# Altium schematic symbol library Altium_LIB_2020.SchLib: 100 symbols
Pins are listed as number, name and electrical type; pins without a type are passive.

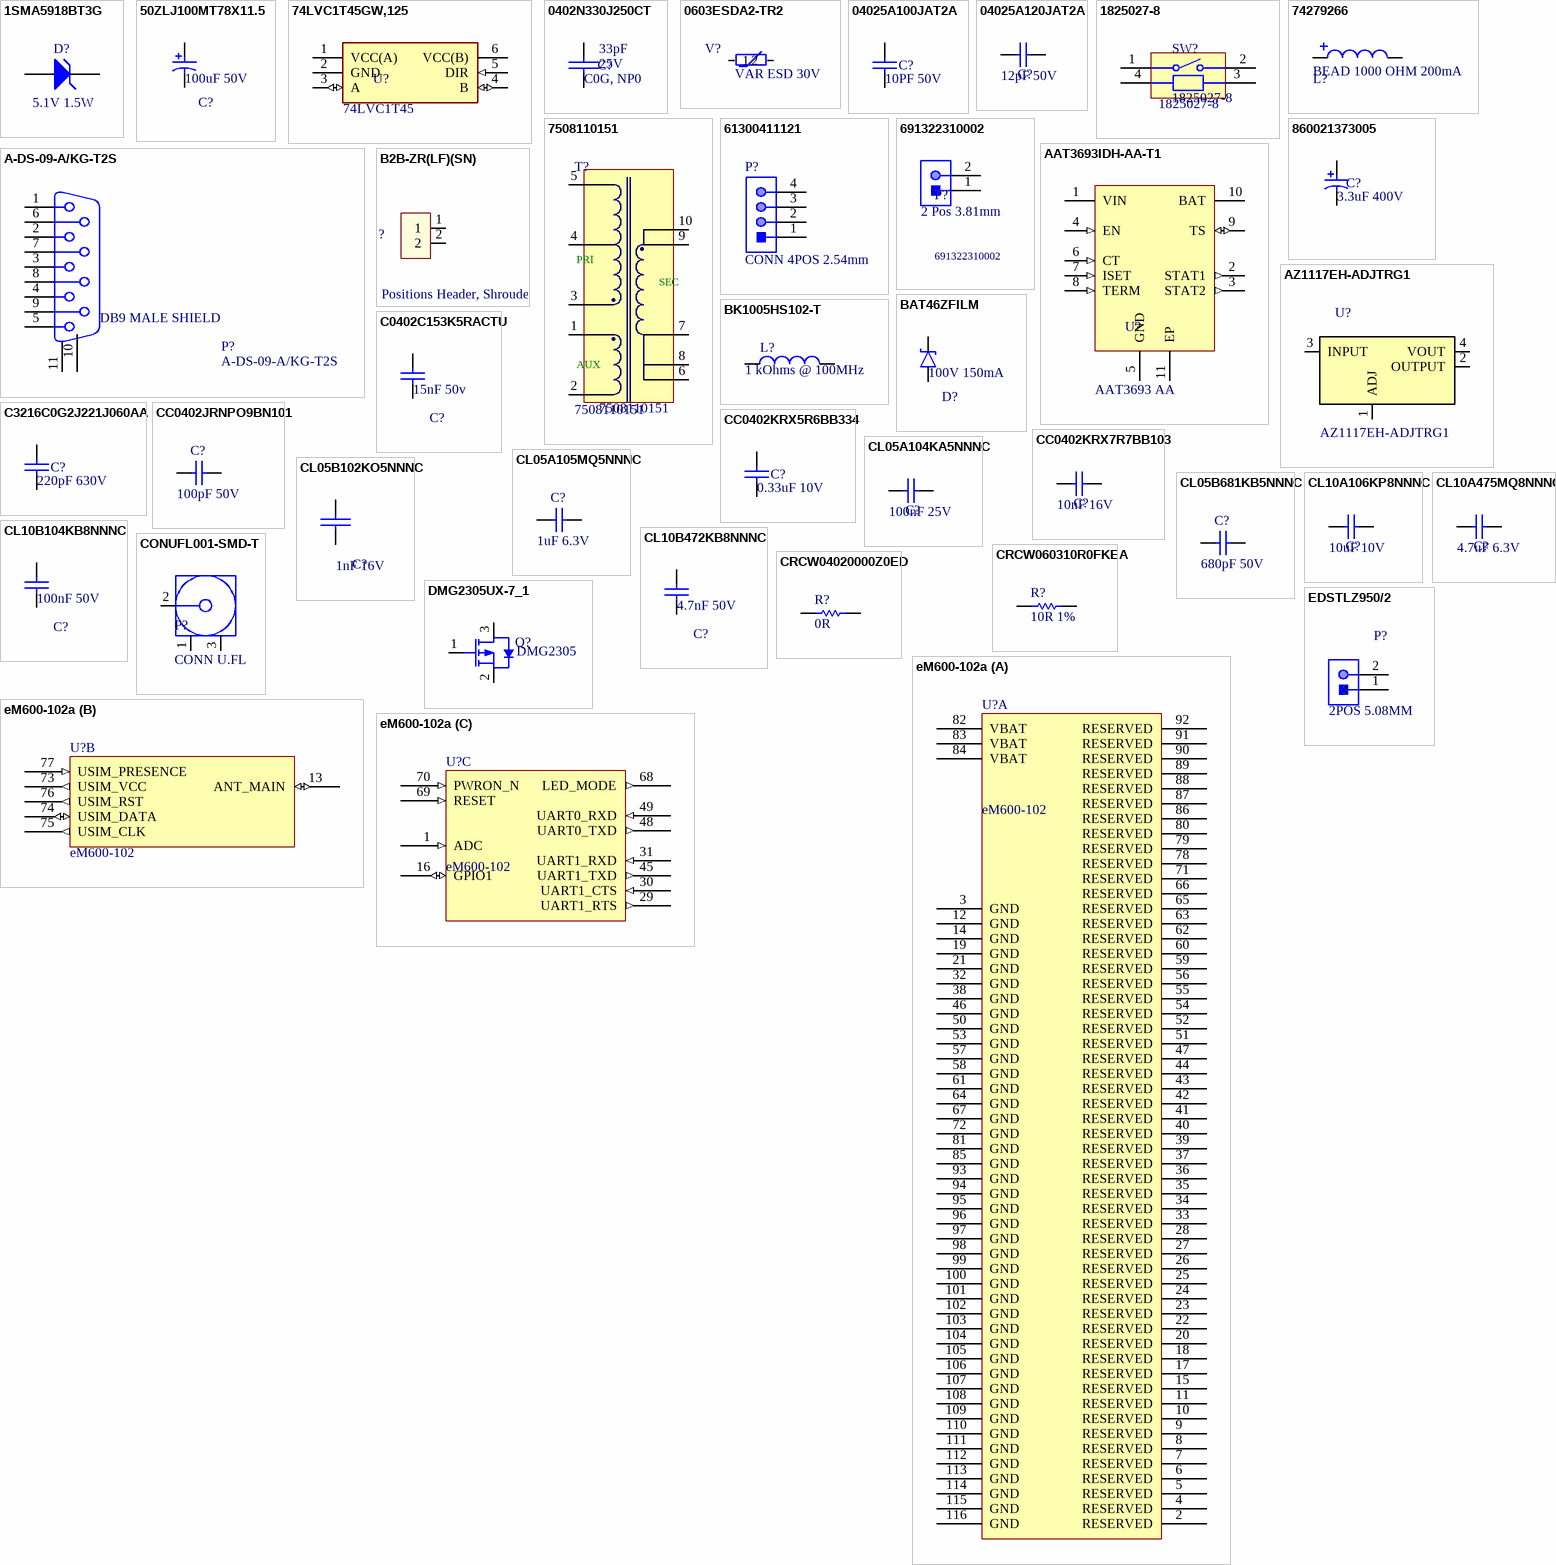
[diagram p0: symbols 1SMA5918BT3G to eM600-102a]

## 1SMA5918BT3G
designator D?, comment Valor: 5.1V 1.5W  (hidden comment: DIODO SMD ZENER 5.1V 1.5W DO214AC/SMA)
DIO  SMD ZENER 5.1V 1.5W DO214AC/SMA; Manufacturer: ON Semiconductor; Manufacturer Part Number: 1SMA5918BT3G; Origem: NICELO-Ed01R2; Case/Package: SMA
footprint DIO DO214 AC (SMA)
pins: 1 A, 2 K

## 50ZLJ100MT78X11.5
designator C?  Valor: 100uF 50V  (hidden comment: 50ZLJ100MT78X11.5)
CAP ALUM ELE 100uF 20% 50V RADIAL; Manufacturer: Rubycon; Origem: GTZ1050_ED1R1; Manufacturer Part Number: 50ZLJ100MT78X11.5; Case/Package: Radial
footprint CAP_POL_8Dx3.5x13MM
pins: 1, 2

## 74LVC1T45GW,125
designator U?, comment Valor: 74LVC1T45  (hidden comment: IC TRNSLTR BIDIRECTIONAL 6TSSOP)
IC TRANSLATER BIDIRECTIONAL 1:1 6TSSOP; Manufacturer: Nexperia USA; Manufacturer Part Number: 74LVC1T45GW,125; Origem: NICELO-Ed01R2; Case/Package: SOT-363
footprint IC SOT-363
pins: 1 VCC(A) (power), 2 GND (power), 3 A (io), 4 B (io), 5 DIR (in), 6 VCC(B) (power)

## 0402N330J250CT
designator C?  Temperature Coefficient: C0G, NP0  Voltage: 25V  VALOR: 33pF  (hidden comment: 0402N330J250CT)
CAP SMD CER 33PF 25V C0G/NP0 0402; Manufacturer: Walsin Technologies; ORIGEM: NIC_eLTE_HUAWEI_ED01r02; Manufacturer Part Number: 0402N330J250CT; Case/Package: 0402
footprint CAP 0402 (CAPACITOR 0402)
pins: 1, 2

## 0603ESDA2-TR2
designator V?, comment VALOR: VAR ESD 30V  (hidden comment: SUPPRESSOR ESD 30VDC 0603 SMD)
VAR SMD SUPPRESSOR ESD 30VDC 0603; Manufacturer: Eaton Bussmann; Manufacturer Part Number: 0603ESDA2-TR2; Origem: NICELO-Ed01R2; Case/Package: 0603
footprint VAR 0603
pins: 1, 2

## 04025A100JAT2A
designator C?  Valor: 10PF 50V  (hidden comment: 04025A100JAT2A)
CAP SMD CER 10PF 50V C0G/NP0 0402; Manufacturer: AVX; Origem: GTZ1050_ED1R1; Case/Package: 0402; Manufacturer Part Number: 04025A100JAT2A
footprint CAP 0402
pins: 1, 2

## 04025A120JAT2A
designator C?, comment Valor: 12pF 50V  (hidden comment: CAP SMD CER 12pF 50V C0G/NP0 0402)
Manufacturer: Kyocera AVX; Manufacturer Part Number: 04025A120JAT2A; Origem: NICELO-Ed01R2; Case/Package: 0402
footprint CAP 0402
pins: 1, 2

## 1825027-8
designator SW?
SWITCH Tactile OFF (ON) SPST Round Button PC Pins 0.05A 24VDC 1.57N Thru-Hole Loose; Manufacturer: TE Conn; Origem: GTZ1050_ED01r1; Case/Package: PTH; Manufacturer Part Number: 1825027-8; Valor: 1825027-8
footprint SWI PTH 1825027-8
pins: 1, 2, 3, 4

## 74279266
designator L?, comment Valor: BEAD 1000 OHM 200mA  (hidden comment: FERRITE BEAD 1000OHM 0.2A 0603)
Manufacturer: Wurth Electronics; Manufacturer Part Number: 74279266; Origem: NICELO-Ed01R2; Case/Package: 0603
footprint IND 0603
pins: 1, 2

## 7508110151
designator T?
TRAFO AC/DC OFFLINE TRANSFORMER 120-375V / 5V 1A; Manufacturer: Wurth; Origem: GTZ1050_ED1R1; Case/Package: PTH; Manufacturer Part Number: 7508110151; Valor: 7508110151
footprint TRAFO EP13 10PINS
pins: 1, 2, 3, 4, 5, 6, 7, 8, 9, 10
text: PRI; SEC; AUX

## 61300411121
designator P?, comment Valor: CONN 4POS 2.54mm  (hidden comment: CONN_HEADER_VERT_4POS_2.54MM)
CONN HEADER VERT 4POS 2.54MM PTH; Manufacturer: Wurth Electronics; Manufacturer Part Number: 61300411121; Origem: NICELO-Ed01R2; Case/Package: PTH
footprint CONN 4x1 0.100"
pins: 1, 2, 3, 4

## 691322310002
designator P?  Valor: 2 Pos 3.81mm
CONN TERM BLOCK HDR 2POS 90DEG 3.81MM; Manufacturer: Wurth Elektronik; Manufacturer: Wurth Electronics; Origem: GTZ1050_ED1R1; Manufacturer Part Number: 691322310002; Case/Package: PTH
footprint CONN TERM BLOCK 2POS 3.81MM
pins: 1, 2

## 860021373005
designator C?  Valor: 3.3uF 400V  (hidden comment: 860021373005)
CAP ALUM ELE 3.3uF 20% 400V Radial; Manufacturer: WURTH; Origem: GTZ1050_ED1R1; Case/Package: Radial; Manufacturer Part Number: 860021373005
footprint CAP POL 6.3Dx2.5x15MM
pins: 1, 2

## A-DS-09-A/KG-T2S
designator P?  Valor: DB9 MALE SHIELD
CONN DB9 Male R/A Connector, Through-hole; Manufacturer: Assmann WSW comp; Origem: GTZ1050_ED1R1; Case/Package: PTH; Manufacturer Part Number: A-DS-09-A/KG-T2S
footprint CONN DB9 MALE SHIELD PTH
pins: 1, 2, 3, 4, 5, 6, 7, 8, 9, 10 MH1, 11 MH2

## AAT3693IDH-AA-T1
designator U?, comment Valor: AAT3693 AA  (hidden comment: IC LINEAR LI-ION CHGR 1.6A 10TDFN)
Manufacturer: Skyworks Solutions; Manufacturer Part Number: AAT3693IDH-AA-T1; Origem: NICELO-Ed01R2; Case/Package: 10TDFN
footprint IC TDFN-10
pins: 1 VIN (power), 2 STAT1 (out), 3 STAT2 (out), 4 EN (in), 5 GND (power), 6 CT (in), 7 ISET (in), 8 TERM (in), 9 TS (io), 10 BAT (power), 11 EP (power)

## AZ1117EH-ADJTRG1
designator U?, comment Valor: AZ1117EH-ADJTRG1  (hidden comment: IC REG LINEAR POS ADJ 1A SOT223)
Manufacturer: Diodes; Origem: NICELO-Ed01R2; Manufacturer Part Number: AZ1117EH-ADJTRG1; Case/Package: SOT-223
footprint IC SOT-223
pins: 1 ADJ, 2 OUTPUT, 3 INPUT, 4 VOUT

## B2B-ZR(LF)(SN)
designator P?, comment 2 Positions Header, Shrouded Connector 0.059" (1.50mm) Through Hole Tin-Lead
CONN BATTERY 2 Positions 0.059" (1.50mm) PTH; Manufacturer: JST; Manufacturer Part Number: B2B-ZR(LF)(SN); Origem: NICELO-Ed01R2; VALOR: CONN B2B-ZR; Case/Package: HEADER VERT 2 POS
footprint CONN B2B-ZR
pins: 1, 2

## BAT46ZFILM
designator D?  Valor: 100V 150mA  (hidden comment: BAT46ZFILM)
DIO SCHOTTKY 100V 150MA SOD123; Manufacturer: STMicroelectronics; Origem: GTZ1050_ED1R1; Manufacturer Part Number: BAT46ZFILM; Case/Package: SOD-123FL
footprint DIO SOD-123FL
pins: 1 A, 2 K

## BK1005HS102-T
designator L?  Valor: 1 kOhms @ 100MHz  (hidden comment: BK1005HS102-T)
FERRITE BEAD 1 KOHM 0402 1LN; Manufacturer: Taiyo Yuden; Origem: GTZ1050_ED1R1; Manufacturer Part Number: BK1005HS102-T; Case/Package: 0402
footprint IND 0402
pins: 1, 2

## C0402C153K5RACTU
designator C?  Valor: 15nF 50v  (hidden comment: C0402C153K5RACTU)
CAP SMD CER 15nF 50V 0402; Manufacturer: KEMET; Origem: GTZ1050_ED1R1; Manufacturer Part Number: C0402C153K5RACTU; Case/Package: 0402
footprint CAP 0603
pins: 1, 2

## C3216C0G2J221J060AA
designator C?  Valor: 220pF 630V  (hidden comment: C3216C0G2J221J060AA)
CAP SMD CER 220PF 630V C0G 1206; Manufacturer: TDK; Origem: GTZ1050_ED1R1; Case/Package: 1206; Manufacturer Part Number: C3216C0G2J221J060AA
footprint CAP 1206
pins: 1, 2

## CC0402JRNPO9BN101
designator C?, comment Valor: 100pF 50V  (hidden comment: CAP SMD CER 100pF 50V C0G/NPO 0402)
Manufacturer: Yageo; Manufacturer Part Number: CC0402JRNPO9BN101; Origem: NICELO-Ed01R2; Case/Package: 0402
footprint CAP 0402 (CAPACITOR 0402)
pins: 1, 2

## CC0402KRX5R6BB334
designator C?  Valor: 0.33uF 10V  (hidden comment: CC0402KRX5R6BB334)
CAP SMD CER 0.33UF 10V X5R 0402; Manufacturer: Yageo; Origem: GTZ1050_ED1R1; Manufacturer Part Number: CC0402KRX5R6BB334; Case/Package: 0402
footprint CAP 0402
pins: 1, 2

## CC0402KRX7R7BB103
designator C?, comment Valor: 10nF 16V  (hidden comment: CAP SMD CER 10nF 16V 0402)
CAP SMD CER 10nF 16V X7R 0402; Manufacturer: Yageo; Manufacturer Part Number: CC0402KRX7R7BB103; Origem: NICELO-Ed01R2; Case/Package: 0402
footprint CAP 0402
pins: 1, 2

## CL05A104KA5NNNC
designator C?, comment Valor: 100nF 25V  (hidden comment: CAP SMD CER 100nF 25V 0402)
CAP SMD CER 100nF 25V X5R 0402; Manufacturer: Samsung; Manufacturer Part Number: CL05A104KA5NNNC; Origem: NICELO-Ed01R2; Case/Package: 0402
footprint CAP 0402
pins: 1, 2

## CL05A105MQ5NNNC
designator C?, comment Valor: 1uF 6.3V  (hidden comment: CAP SMD CER 1uF 6.3V X5R 0402)
Manufacturer: Samsung; Manufacturer Part Number: CL05A105MQ5NNNC; Origem: NICELO-Ed01R2; Case/Package: 0402
footprint CAP 0402 (CAPACITOR 0402)
pins: 1, 2

## CL05B102KO5NNNC
designator C?, comment Valor: 1nF 16V  (hidden comment: CAP SMD CER 1nF 16V 0402)
CAP SMD CER 1nF 16V X7R 0402; Manufacturer: Samsung; Manufacturer Part Number: CL05B102KO5NNNC; Origem: NICELO-Ed01R2; Case/Package: 0402
footprint CAP 0402
pins: 1, 2

## CL05B681KB5NNNC
designator C?, comment Valor: 680pF 50V  (hidden comment: CAP SMD CER 680pF 50V X7R 0402)
Manufacturer: Samsung; Manufacturer Part Number: CL05B681KB5NNNC; Origem: NICELO-Ed01R2; Case/Package: 0402
footprint CAP 0402 (CAPACITOR 0402)
pins: 1, 2

## CL10A106KP8NNNC
designator C?, comment Valor: 10uF 10V  (hidden comment: CAP SMD CER 10uF 10V 0603)
CAP SMD CER 10uF 10V X5R 0603; Manufacturer: Samsung; Manufacturer Part Number: CL10A106KP8NNNC; Origem: NICELO-Ed01R2; Case/Package: 0603
footprint CAP 0603
pins: 1, 2

## CL10A475MQ8NNNC
designator C?, comment Valor: 4.7uF 6.3V  (hidden comment: CAP SMD CER 4.7uF 6.3V 0603)
CAP SMD CER 4.7uF 6.3V X5R 0603; Manufacturer: Samsung; Manufacturer Part Number: CL10A475MQ8NNNC; Origem: NICELO-Ed01R2; Case/Package: 0603
footprint CAP 0603
pins: 1, 2

## CL10B104KB8NNNC
designator C?  Valor: 100nF 50V  (hidden comment: CL10B104KB8NNNC)
CAP SMD CER 100nF 50V 0603; Manufacturer: Samsung; Origem: GTZ1050_ED1R1; Manufacturer Part Number: CL10B104KB8NNNC; Case/Package: 0603
footprint CAP 0603
pins: 1, 2

## CL10B472KB8NNNC
designator C?  Valor: 4.7nF 50V  (hidden comment: CL10B472KB8NNNC)
CAP SMD CER 4.7nF 50V 0603; Manufacturer: Samsung; Origem: GTZ1050_ED1R1; Manufacturer Part Number: CL10B472KB8NNNC; Case/Package: 0603
footprint CAP 0603
pins: 1, 2

## CONUFL001-SMD-T
designator P?, comment Valor: CONN U.FL  (hidden comment: CONN U.FL JACK UMCC SMD 6GHz 50 Ohm)
Manufacturer: Linx; Manufacturer Part Number: CONUFL001-SMD-T; Origem: NICELO-Ed01R2; Case/Package: SMD
footprint CONN U.FL
pins: 1, 2, 3

## CRCW060310R0FKEA
designator R?, comment Valor: 10R 1%  (hidden comment: RES SMD 10 OHM 1% 1/10W 0603)
Manufacturer: Vishay; Manufacturer Part Number: CRCW060310R0FKEA; Origem: NICELO-Ed01R2; Case/Package: 0603
footprint RES 0603 (RESISTOR 0603)
pins: 1, 2

## CRCW04020000Z0ED
designator R?, comment Valor: 0R  (hidden comment: RES SMD 0 OHM JUMPER 1/16W 0402)
Manufacturer: Vishay; Manufacturer Part Number: CRCW04020000Z0ED; Origem: NICELO-Ed01R2; Case/Package: 0402
footprint RES 0402 (RESISTOR 0402)
pins: 1, 2

## DMG2305UX-7_1
designator Q?, comment VALOR: DMG2305  (hidden comment: DMG2305UX-7)
TRANS MOSFET P-CH 20V 4.2A SOT23; Manufacturer: Diodes; ORIGEM: NIC_eLTE_HUAWEI_ED01r02; Manufacturer Part Number: DMG2305UX-7; Case/Package: SOT-23
footprint IC SOT23-3
pins: 1 G, 2 S, 3 D

## EDSTLZ950/2
designator P?  Valor: 2POS 5.08MM  (hidden comment: EDSTLZ950/2)
CONN TERM BLOCK HDR 2POS 90DEG 5.08MM; Manufacturer: On-Shore Technology; Origem: GTZ1050_ED1R1; Manufacturer Part Number: EDSTLZ950/2; Case/Package: PTH
footprint CONN TERM BLOCK 2POS 5.08MM
pins: 1, 2

## eM600-102a
designator U?  VALOR: eM600-102  (hidden comment: eM600-102a)
IC MODULE 230MHz eM600-102; Manufacturer: Huawei; ORIGEM: NIC_eLTE_HUAWEI_ED01r02; Manufacturer PartNumber: eM600-102a; Case/Package: BGA
footprint IC eM600-102a
part A pins: 2 RESERVED "Reserved", 3 GND (power) "Ground", 4 RESERVED "Reserved", 5 RESERVED "Reserved", 6 RESERVED "Reserved", 7 RESERVED "Reserved", 8 RESERVED "Reserved", 9 RESERVED "Reserved", 10 RESERVED "Reserved", 11 RESERVED "Reserved", 12 GND (power) "Ground", 14 GND (power) "Ground", 15 RESERVED "Reserved", 17 RESERVED "Reserved", 18 RESERVED "Reserved", 19 GND (power) "Ground", 20 RESERVED "Reserved", 21 GND (power) "Ground", 22 RESERVED "Reserved", 23 RESERVED "Reserved", 24 RESERVED "Reserved", 25 RESERVED "Reserved", 26 RESERVED "Reserved", 27 RESERVED "Reserved", 28 RESERVED "Reserved", 32 GND (power) "Ground", 33 RESERVED "Reserved", 34 RESERVED "Reserved", 35 RESERVED "Reserved", 36 RESERVED "Reserved", 37 RESERVED "Reserved", 38 GND (power) "Ground", 39 RESERVED "Reserved", 40 RESERVED "Reserved", 41 RESERVED "Reserved", 42 RESERVED "Reserved", 43 RESERVED "Reserved", 44 RESERVED "Reserved", 46 GND (power) "Ground", 47 RESERVED "Reserved", 50 GND (power) "Ground", 51 RESERVED "Reserved", 52 RESERVED "Reserved", 53 GND (power) "Ground", 54 RESERVED "Reserved", 55 RESERVED "Reserved", 56 RESERVED "Reserved", 57 GND (power) "Ground", 58 GND (power) "Ground", 59 RESERVED "Reserved", 60 RESERVED "Reserved", 61 GND (power) "Ground", 62 RESERVED "Reserved", 63 RESERVED "Reserved", 64 GND (power) "Ground", 65 RESERVED "Reserved", 66 RESERVED "Reserved", 67 GND (power) "Ground", 71 RESERVED "Reserved", 72 GND (power) "Ground", 78 RESERVED "Reserved", 79 RESERVED "Reserved", 80 RESERVED "Reserved", 81 GND (power) "Ground", 82 VBAT (power) "Power Input", 83 VBAT (power) "Power Input", 84 VBAT (power) "Power Input", 85 GND (power) "Ground", 86 RESERVED "Reserved", 87 RESERVED "Reserved", 88 RESERVED "Reserved", 89 RESERVED "Reserved", 90 RESERVED "Reserved", 91 RESERVED "Reserved", 92 RESERVED "Reserved", 93 GND (power) "Ground", 94 GND (power) "Ground", 95 GND (power) "Ground", 96 GND (power) "Ground", 97 GND (power) "Ground", 98 GND (power) "Ground", 99 GND (power) "Ground", 100 GND (power) "Ground", 101 GND (power) "Ground", 102 GND (power) "Ground", 103 GND (power) "Ground", 104 GND (power) "Ground", 105 GND (power) "Ground", 106 GND (power) "Ground", 107 GND (power) "Ground", 108 GND (power) "Ground", 109 GND (power) "Ground", 110 GND (power) "Ground", 111 GND (power) "Ground", 112 GND (power) "Ground", 113 GND (power) "Ground", 114 GND (power) "Ground", 115 GND (power) "Ground", 116 GND (power) "Ground"
part B pins: 13 ANT_MAIN (io) "Main antenna interface", 73 USIM_VCC (out) "Power supply for (U)SIM card", 74 USIM_DATA (io) "Data signal of (U)SIM card", 75 USIM_CLK (out) "Clock signal of (U)SIM card", 76 USIM_RST (out) "Reset signal of (U)SIM card", 77 USIM_PRESENCE (in) "(U)SIM card insertion detection"
part C pins: 1 ADC (in) "General Modulus Converter", 16 GPIO1 (io) "General Purpose I/O", 29 UART1_RTS (out), 30 UART1_CTS (in), 31 UART1_RXD (in), 45 UART1_TXD (out), 48 UART0_TXD (out), 49 UART0_RXD (in), 68 LED_MODE (out) "Network Status Indicator", 69 RESET (in) "Module Restart", 70 PWRON_N (in) "System Boot or Shut down"

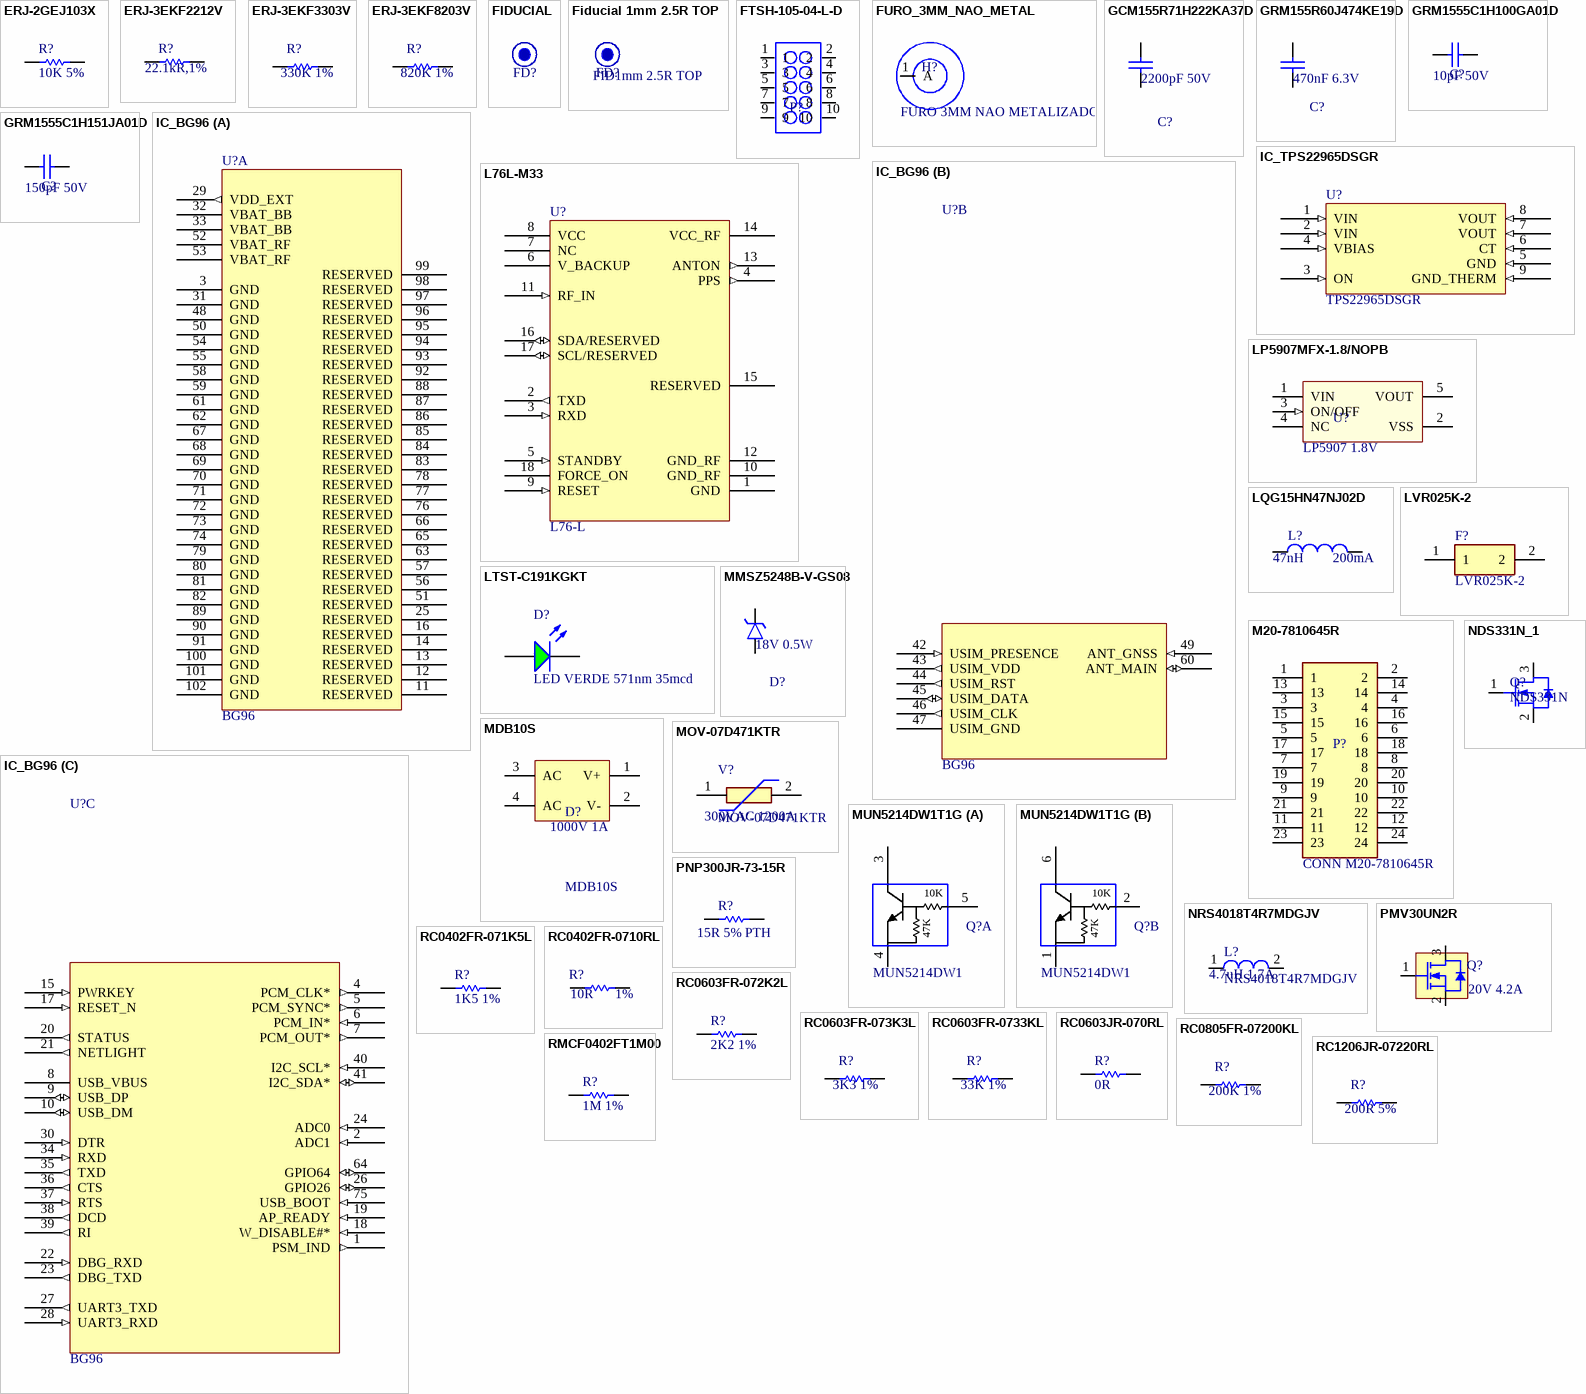
[diagram p1: symbols ERJ-2GEJ103X to RMCF0402FT1M00]

## ERJ-2GEJ103X
designator R?, comment Valor: 10K 5%  (hidden comment: RES SMD 10K OHM 5% 1/10W 0402)
Manufacturer: Panasonic; Manufacturer Part Number: ERJ-2GEJ103X; Origem: NICELO-Ed01R2; Case/Package: 0402
footprint RES 0402 (RESISTOR 0402)
pins: 1, 2

## ERJ-3EKF2212V
designator R?  Valor: 22.1kR,1%  (hidden comment: ERJ-3EKF2212V)
RES SMD 22K1 OHM 1% 1/10W 0603; Manufacturer: Panasonic; Origem: GTZ1050_ED1R1; Manufacturer Part Number: ERJ-3EKF2212V; Case/Package: 0603
footprint RES 0603
pins: 1, 2

## ERJ-3EKF3303V
designator R?  Valor: 330K 1%  (hidden comment: ERJ-3EKF3303V)
RES SMD 330K 1% 0603; Manufacturer: Panasonic; Origem: GTZ1050_ED1R1; Manufacturer Part Number: ERJ-3EKF3303V; Case/Package: 0603
footprint RES 0603
pins: 1, 2

## ERJ-3EKF8203V
designator R?  Valor: 820K 1%  (hidden comment: ERJ-3EKF8203V)
RES SMD 820K 1%  0603; Manufacturer: Panasonic; Origem: GTZ1050_ED1R1; Manufacturer Part Number: ERJ-3EKF8203V; Case/Package: 0603
footprint RES 0603
pins: 1, 2

## FIDUCIAL
designator FD?, comment FIDUCIAL, 0.040" inner Dia, 0.075" outer Dia  (value not drawn)
FIDUCIAL 1MM; Origem: NICELO-Ed01R2; VALOR: FIDUCIAL 1MM; Case/Package: SMD
footprint FID 1mm 1R

## Fiducial 1mm 2.5R TOP
designator FD?  Valor: FID1mm 2.5R TOP  (hidden comment: Fiducial 1mm 2.5R TOP)
Manufacturer: V2COM; Origem: GTZ1050_ED1R1; Case/Package: SMD; Manufacturer Part Number: Fiducial 1mm 2.5R TOP
footprint FID 1MM 2.5R TOP

## FTSH-105-04-L-D
designator P?, comment CONN HEADER 5X2POS 1.27mm  (value not drawn)
Manufacturer: Samtec; Manufacturer Part Number: FTSH-105-04-L-D; Valor: CON HEADER 5X2POS 1.27mm; Origem: NICELO-Ed01R2; Case/Package: HEADER CUTTABLE
footprint CONN HEADER 5X2POS 0.050"
pins: 1, 2, 3, 4, 5, 6, 7, 8, 9, 10

## FURO_3MM_NAO_METAL
designator H?  (value not drawn)
FURO 3MM NAO METALIZADO; Manufacturer: V2COM; Origem: GTZ1050_ED01r1; Case/Package: PTH; Manufacturer Part Number: FURO 3MM NAO METAL; Valor: FURO 3MM NAO METALIZADO
footprint FURO_3MM_NAO_METAL
pins: 1 A

## GCM155R71H222KA37D
designator C?  Valor: 2200pF 50V  (hidden comment: GCM155R71H222KA37D)
CAP SMD CER 2200PF 50V X7R 0402; Manufacturer: Murata; Origem: GTZ1050_ED1R1; Manufacturer Part Number: GCM155R71H222KA37D; Case/Package: 0402
footprint CAP 0402
pins: 1, 2

## GRM155R60J474KE19D
designator C?  Valor: 470nF 6.3V  (hidden comment: GRM155R60J474KE19D)
CAP SMD CER 470nF 6.3V 0402; Manufacturer: Murata; Origem: GTZ1050_ED1R1; Manufacturer Part Number: GRM155R60J474KE19D; Case/Package: 0402
footprint CAP 0402
pins: 1, 2

## GRM1555C1H100GA01D
designator C?, comment Valor: 10pF 50V  (hidden comment: CAP SMD CER 10pF 50V 0402)
CAP SMD CER 10pF 50V C0G/NP0 0402; Manufacturer: Murata; Manufacturer Part Number: GRM1555C1H100GA01D; Origem: NICELO-Ed01R2; Case/Package: 0402
footprint CAP 0402
pins: 1, 2

## GRM1555C1H151JA01D
designator C?, comment Valor: 150pF 50V  (hidden comment: CAP SMD CER 150pF 50V C0G/NP0 0402)
Manufacturer: Murata; Manufacturer Part Number: GRM1555C1H151JA01D; Origem: NICELO-Ed01R2; Case/Package: 0402
footprint CAP 0402
pins: 1, 2

## IC_BG96
designator U?, comment Valor: BG96  (hidden comment: IC MODULE LTE CAT-M BG96)
Manufacturer: Quectel; Manufacturer Part Number: BG96MA-128-SGN; Origem: NICELO-Ed01R2; Case/Package: LGA
footprint IC BG96
part A pins: 3 GND (power) "Ground", 11 RESERVED "Reserved", 12 RESERVED "Reserved", 13 RESERVED "Reserved", 14 RESERVED "Reserved", 16 RESERVED "Reserved", 25 RESERVED "Reserved", 29 VDD_EXT (out) "Provide 1.8V for external circuit", 31 GND (power) "Ground", 32 VBAT_BB (power) "Power supply for the module’s baseband part", 33 VBAT_BB (power) "Power supply for the module’s baseband part", 48 GND (power) "Ground", 50 GND (power) "Ground", 51 RESERVED "Reserved", 52 VBAT_RF (power) "Power supply for the module’s RF part", 53 VBAT_RF (power) "Power supply for the module’s RF part", 54 GND (power) "Ground", 55 GND (power) "Ground", 56 RESERVED "Reserved", 57 RESERVED "Reserved", 58 GND (power) "Ground", 59 GND (power) "Ground", 61 GND (power) "Ground", 62 GND (power) "Ground", 63 RESERVED "Reserved", 65 RESERVED "Reserved", 66 RESERVED "Reserved", 67 GND (power) "Ground", 68 GND (power) "Ground", 69 GND (power) "Ground", 70 GND (power) "Ground", 71 GND (power) "Ground", 72 GND (power) "Ground", 73 GND (power) "Ground", 74 GND (power) "Ground", 76 RESERVED "Reserved", 77 RESERVED "Reserved", 78 RESERVED "Reserved", 79 GND (power) "Ground", 80 GND (power) "Ground", 81 GND (power) "Ground", 82 GND (power) "Ground", 83 RESERVED "Reserved", 84 RESERVED "Reserved", 85 RESERVED "Reserved", 86 RESERVED "Reserved", 87 RESERVED "Reserved", 88 RESERVED "Reserved", 89 GND (power) "Ground", 90 GND (power) "Ground", 91 GND (power) "Ground", 92 RESERVED "Reserved", 93 RESERVED "Reserved", 94 RESERVED "Reserved", 95 RESERVED "Reserved", 96 RESERVED "Reserved", 97 RESERVED "Reserved", 98 RESERVED "Reserved", 99 RESERVED "Reserved", 100 GND (power) "Ground", 101 GND (power) "Ground", 102 GND (power) "Ground"
part B pins: 42 USIM_PRESENCE (in) "(U)SIM card insertion detection", 43 USIM_VDD (out) "Power supply for (U)SIM card", 44 USIM_RST (out) "Reset signal of (U)SIM card", 45 USIM_DATA (io) "Data signal of (U)SIM card", 46 USIM_CLK (out) "Clock signal of (U)SIM card", 47 USIM_GND (power) "Specified ground for (U)SIM card", 49 ANT_GNSS (in) "GNSS antenna interface", 60 ANT_MAIN (io) "Main antenna interface"
part C pins: 1 PSM_IND (out) "Power saving mode indicator", 2 ADC1 (in) "General purpose analog to digital converter interface", 4 PCM_CLK* (out) "PCM clock output", 5 PCM_SYNC* (out) "PCM frame synchronization output", 6 PCM_IN* (in) "PCM data input", 7 PCM_OUT* (out) "PCM data output", 8 USB_VBUS (power) "USB detection", 9 USB_DP (io) "USB differential data bus (+)", 10 USB_DM (io) "IO USB differential data bus (-)", 15 PWRKEY (in) "Turn on/off the module", 17 RESET_N (in) "Reset the module", 18 W_DISABLE#* (in) "Airplane mode control", 19 AP_READY (in) "Application processor sleep state detection", 20 STATUS (out) "Indicate the module’s operation status", 21 NETLIGHT (out) "Indicate the module’s network activity status", 22 DBG_RXD (in) "Receive data", 23 DBG_TXD (out) "Transmit data", 24 ADC0 (in) "General purpose analog to digital converter interface", 26 GPIO26 (io) "Generalpurpose input/ output interface", 27 UART3_TXD (out) "Transmit data", 28 UART3_RXD (in) "Receive data", 30 DTR (in) "Data terminal ready(sleep mode control)", 34 RXD (in) "Receive data", 35 TXD (out) "Transmit data", 36 CTS (out) "Clear to send", 37 RTS (in) "Request to send", 38 DCD (out) "Data carrier detection", 39 RI (out) "Ring indicator", 40 I2C_SCL* (in) "I2C serial clock. Used for external codec.", 41 I2C_SDA* (io) "I2C serial data. Used for external codec.", 64 GPIO64 (io) "Generalpurpose input/ output interface", 75 USB_BOOT (in) "Force the module to enter into emergency download mode"

## IC_TPS22965DSGR
designator U?, comment Valor: TPS22965DSGR  (hidden comment: IC LOAD SWITCH 6A 8WSON)
Manufacturer: Texas Instruments; Origem: NICELO-Ed01R2; Manufacturer Part Number: TPS22965DSGR; Case/Package: 8-WSON
footprint IC 8-WSON
pins: 1 VIN (in), 2 VIN (in), 3 ON (in), 4 VBIAS (in), 5 GND (in), 6 CT (in), 7 VOUT (in), 8 VOUT (in), 9 GND_THERM (in)

## L76L-M33
designator U?  VALOR: L76-L  (hidden comment: L76L-M33)
IC GPS/GNSS RECEIVER 18LCC; Manufacturer: Quectel; ORIGEM: NIC_eLTE_HUAWEI_ED01r02; Manufacturer Part Number: L76L-M33; Case/Package: *
footprint IC MAX-M8C-0-10
pins: 1 GND (power), 2 TXD (out), 3 RXD (in), 4 PPS (out), 5 STANDBY (in), 6 V_BACKUP (power), 7 NC (power), 8 VCC (power), 9 RESET (in), 10 GND_RF (power), 11 RF_IN (in), 12 GND_RF (power), 13 ANTON (out), 14 VCC_RF (power), 15 RESERVED, 16 SDA/RESERVED (io), 17 SCL/RESERVED (io), 18 FORCE_ON

## LP5907MFX-1.8/NOPB
designator U?, comment Valor: LP5907 1.8V  (hidden comment: IC REG LDO 1.8V 0.25A SOT23-5)
Manufacturer: Texas Instruments; Manufacturer Part Number: LP5907MFX-1.8/NOPB; Origem: NICELO-Ed01R2; Case/Package: SOT-23-5
footprint IC SOT-23-5
pins: 1 VIN (power), 2 VSS (power), 3 ON/OFF (in), 4 NC, 5 VOUT (power)

## LQG15HN47NJ02D
designator L?  Current: 200mA  VALOR: 47nH  (hidden comment: LQG15HN47NJ02D)
IND SMD 47NH 250MA 1.15OHM 0402; Manufacturer: Murata; ORIGEM: NIC_eLTE_HUAWEI_ED01r02; Manufacturer Part Number: LQG15HN47NJ02D; Case/Package: 0402; Inductance: 47nH
footprint IND 0402 (INDUTOR 0402)
pins: 1, 2

## LTST-C191KGKT
designator D?, comment Valor: LED VERDE 571nm 35mcd  (hidden comment: LED VERDE 571NM 0603)
Manufacturer: Vishay Lite-On; Manufacturer Part Number: LTST-C191KGKT; Origem: NICELO-Ed01R2; Case/Package: 0603
footprint LED 0603
pins: 1 A, 2 K

## LVR025K-2
designator F?
PTC RESET FUSE 240V 250MA RADIAL; Manufacturer: Littelfuse; Manufacturer Part Number: F27075-000; Origem: GTZ1050_ED1R1; Case/Package: Radial; Valor: LVR025K-2
footprint PTC LVR025K2
pins: 1, 2

## M20-7810645R
designator P?, comment Valor: CONN M20-7810645R  (hidden comment: CONN RCPT 12POS 0.1 GOLD SMD)
Manufacturer: Harwin Inc; Manufacturer Part Number: M20-7810645R; Origem: NICELO-Ed01R2; Case/Package: SMD/PTH
footprint CONN M207810645R SMD PTH
pins: 1, 2, 3, 4, 5, 6, 7, 8, 9, 10, 11, 12, 13, 14, 15, 16, 17, 18, 19, 20, 21, 22, 23, 24

## MDB10S
designator D?  Valor: 1000V 1A
DIO Bridge Rectifiers 1A Bridge Rectifier; Manufacturer: ON SEMI; Origem: GTZ1050_ED1R1; Case/Package: 4-MicroDIP; Manufacturer Part Number: MDB10S
footprint DIO 4-MicroDIP
pins: 1 V+ (power), 2 V- (power), 3 AC (power), 4 AC (power)

## MMSZ5248B-V-GS08
designator D?  Valor: 18V 0.5W  (hidden comment: MMSZ5248B-V-GS08)
DIO ZENER 18V 0.5W; Manufacturer: Vishay; Origem: GTZ1050_ED1R1; Manufacturer Part Number: MMSZ5248B-V-GS08; Case/Package: SOD-123FL
footprint DIO SOD-123FL
pins: 1 A, 2 K

## MOV-07D471KTR
designator V?  Valor: 300VAC 1200A
VAR PTH MOV 300VAC/385VDC 1200A 470V Radial; Manufacturer: Bourns; Origem: GTZ1050_ED1R1; Manufacturer Part Number: MOV-07D471KTR; Case/Package: PTH Radial
footprint VAR MOV-07D
pins: 1, 2

## MUN5214DW1T1G
designator Q?  Valor: MUN5214DW1  (hidden comment: MUN5214DW1T1G)
TRANS 2NPN PREBIAS 0.25W SOT363; Manufacturer: ON Semiconductor; Origem: NICELO-Ed01R2; Manufacturer Part Number: MUN5214DW1T1G; Case/Package: SOT-363
footprint IC SOT-363
part A pins: 3 C, 4 E, 5 B
part B pins: 1 E, 2 B, 6 C
part A text: 10K; 47K
part B text: 10K; 47K

## NDS331N_1
designator Q?, comment NDS331N
TRANS MOSFET N-CH 20V 1.3A 3-Pin SuperSOT T/R; Manufacturer: ON Semiconductor / Fairchild; ORIGEM: NIC_eLTE_HUAWEI_ED01r02; Manufacturer Part Number: NDS331N; Case/Package: TO-236-3; VALOR: NDS331N
footprint IC SOT23-3
pins: 1 G, 2 S, 3 D

## NRS4018T4R7MDGJV
designator L?  Valor: 4.7uH 1.7A
IND POWER Shielded Wirewound 4.7uH 20% 100KHz Ferrite 1.7A Embossed T/R; Manufacturer: Taiyo Yuden; Origem: GTZ1050_ED1R1; Manufacturer Part Number: NRS4018T4R7MDGJV; Case/Package: SMD
footprint IND NR4018
pins: 1, 2

## PMV30UN2R
designator Q?  Valor: 20V 4.2A  (hidden comment: PMV30UN2R)
TRANS MOSFET N 20V 4.2A; Manufacturer: Nexperia; Origem: GTZ1050_ED1R1; Manufacturer Part Number: PMV30UN2R; Case/Package: SOT-23-3
footprint IC SOT23-3
pins: 1 G, 2 S, 3 D

## PNP300JR-73-15R
designator R?  Valor: 15R 5% PTH  (hidden comment: PNP300JR-73-15R)
RES PTH 15R OHM 3W 5% AXIAL; Manufacturer: Yageo; Origem: GTZ1050_ED1R1; Manufacturer Part Number: PNP300JR-73-15R; Case/Package: Axial
footprint RES PTH VERTICAL D1mmx5.08mm
pins: 1, 2

## RC0402FR-071K5L
designator R?, comment Valor: 1K5 1%  (hidden comment: RES SMD 1K5 OHM 1% 1/16W 0402)
Manufacturer: Yageo; Manufacturer Part Number: RC0402FR-071K5L; Origem: NICELO-Ed01R2; Case/Package: 0402
footprint RES 0402 (RESISTOR 0402)
pins: 1, 2

## RC0402FR-0710RL
designator R?  Tolerance: 1%  VALOR: 10R  (hidden comment: RC0402FR-0710RL)
RES SMD 10 OHM 1% 1/16W 0402; Manufacturer: Yageo; ORIGEM: NIC_eLTE_HUAWEI_ED01r02; Manufacturer Part Number: RC0402FR-0710RL; Case/Package: 0402; Resistance: 10R; Power: 1/16W
footprint RES 0402
pins: 1, 2

## RC0603FR-072K2L
designator R?, comment Valor: 2K2 1%  (hidden comment: RES SMD 2K2 OHM 1% 1/10W 0603)
Manufacturer: Yageo; Manufacturer Part Number: RC0603FR-072K2L; Origem: NICELO-Ed01R2; Case/Package: 0603
footprint RES 0603 (RESISTOR 0603)
pins: 1, 2

## RC0603FR-073K3L
designator R?  Valor: 3K3 1%  (hidden comment: RC0603FR-073K3L)
RES SMD 3K3 1% 0.1W 0603; Manufacturer: Yageo Phycomp; Origem: GTZ1050_ED1R1; Manufacturer Part Number: RC0603FR-073K3L; Case/Package: 0603
footprint RES 0603
pins: 1, 2

## RC0603FR-0733KL
designator R?  Valor: 33K 1%  (hidden comment: RC0603FR-0733KL)
RES SMD 33K OHM 1% 1/16W 0603; Manufacturer: Yageo Phycomp; Origem: GTZ1050_ED1R1; Manufacturer Part Number: RC0603FR-0733KL; Case/Package: 0603
footprint RES 0603
pins: 1, 2

## RC0603JR-070RL
designator R?, comment Valor: 0R  (hidden comment: RES SMD 0 OHM JUMPER 1/10W 0603)
Manufacturer: Yageo; Manufacturer Part Number: RC0603JR-070RL; Origem: NICELO-Ed01R2; Case/Package: 0603
footprint RES 0603 (RESISTOR 0603)
pins: 1, 2

## RC0805FR-07200KL
designator R?  Valor: 200K 1%  (hidden comment: RC0805FR-07200KL)
RES SMD 200K OHM 1% 1/8W 0805; Manufacturer: Yageo; Origem: GTZ1050_ED1R1; Manufacturer Part Number: RC0805FR-07200KL; Case/Package: 0805
footprint RES 0805
pins: 1, 2

## RC1206JR-07220RL
designator R?  Valor: 200R 5%  (hidden comment: RC1206JR-07220RL)
RES SMD 220R OHM 5% 1/4W 1206; Manufacturer: Yageo; Origem: GTZ1050_ED1R1; Manufacturer Part Number: RC1206JR-07220RL; Case/Package: 1206
footprint RES 1206
pins: 1, 2

## RMCF0402FT1M00
designator R?  Valor: 1M 1%  (hidden comment: RMCF0402FT1M00)
RES SMD 1M OHM 1% 1/16W 0402; Manufacturer: Stackpole Electronics; Origem: GTZ1050_ED1R1; Manufacturer Part Number: RMCF0402FT1M00; Case/Package: 0402
footprint RES 0402 (RESISTOR 0402)
pins: 1, 2

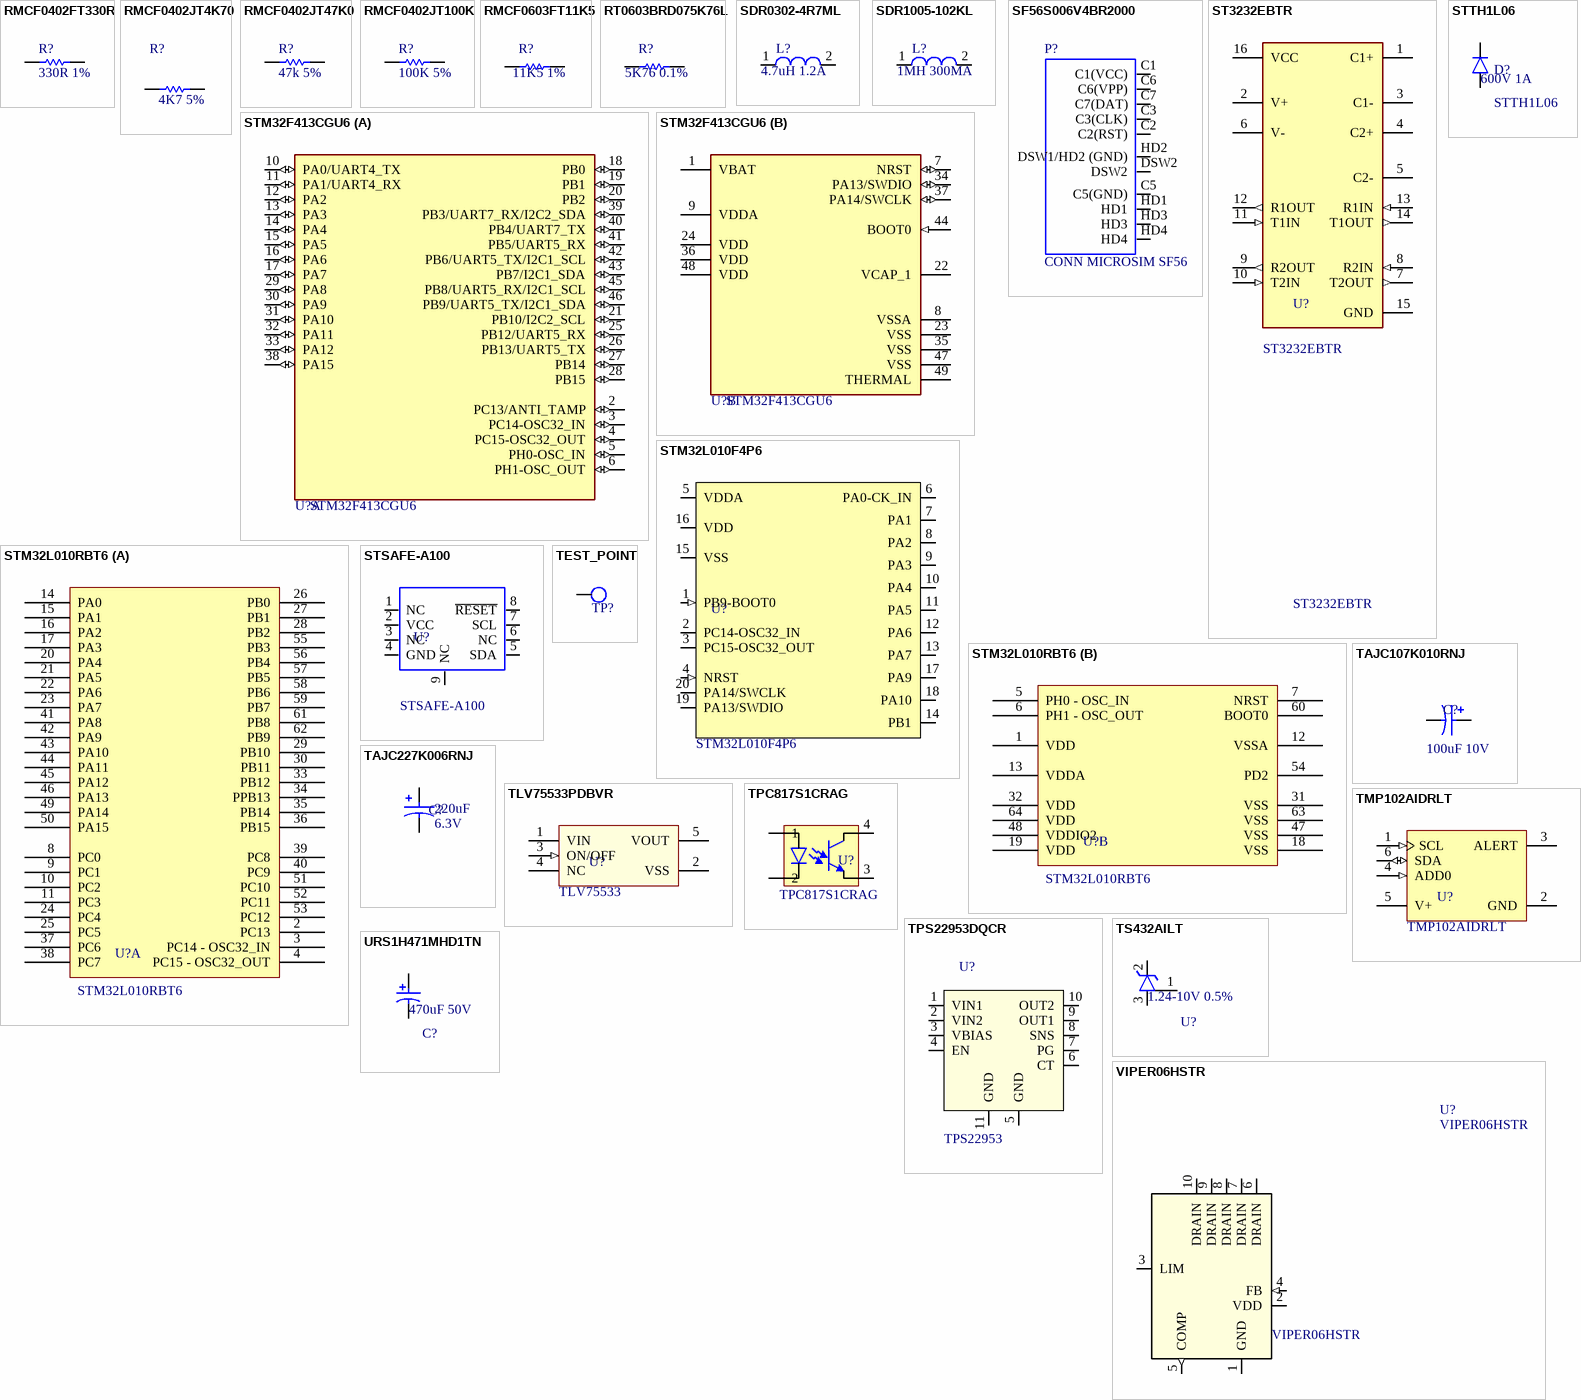
[diagram p2: symbols RMCF0402FT330R to VIPER06HSTR]

## RMCF0402FT330R
designator R?, comment Valor: 330R 1%  (hidden comment: RES SMD 330 OHM 1% 1/16W 0402)
Manufacturer: Stackpole Electronics; Manufacturer Part Number: RMCF0402FT330R; Origem: NICELO-Ed01R2; Case/Package: 0402
footprint RES 0402 (RESISTOR 0402)
pins: 1, 2

## RMCF0402JT4K70
designator R?, comment Valor: 4K7 5%  (hidden comment: RES SMD 4K7 OHM 5% 1/16W 0402)
Manufacturer: Stackpole Electronics; Manufacturer Part Number: RMCF0402JT4K70; Origem: NICELO-Ed01R2; Case/Package: 0402
footprint RES 0402 (RESISTOR 0402)
pins: 1, 2

## RMCF0402JT47K0
designator R?, comment Valor: 47k 5%  (hidden comment: RES SMD 47K OHM 5% 1/16W 0402)
Manufacturer: Stackpole Electronics; Manufacturer Part Number: RMCF0402JT47K0; Origem: NICELO-Ed01R2; Case/Package: 0402
footprint RES 0402 (RESISTOR 0402)
pins: 1, 2

## RMCF0402JT100K
designator R?, comment Valor: 100K 5%  (hidden comment: RES SMD 100K OHM 5% 1/16W 0402)
Manufacturer: Stackpole Electronics; Manufacturer Part Number: RMCF0402JT100K; Origem: NICELO-Ed01R2; Case/Package: 0402
footprint RES 0402 (RESISTOR 0402)
pins: 1, 2

## RMCF0603FT11K5
designator R?  Valor: 11K5 1%  (hidden comment: RMCF0603FT11K5)
RES SMD 11K5 OHM 1% 1/10W 0603; Manufacturer: Stackpole Electronics; Origem: GTZ1050_ED1R1; Manufacturer Part Number: RMCF0603FT11K5; Case/Package: 0603
footprint RES 0603
pins: 1, 2

## RT0603BRD075K76L
designator R?  Valor: 5K76 0.1%  (hidden comment: RT0603BRD075K76L)
RES SMD 5K76 OHM 0.1% 1/10W; Manufacturer: Yageo; Origem: GTZ1050_ED1R1; Manufacturer Part Number: RT0603BRD075K76L; Case/Package: 0603
footprint RES 0603
pins: 1, 2

## SDR0302-4R7ML
designator L?  Valor: 4.7uH 1.2A  (hidden comment: SDR0302-4R7ML)
IND POWER Wirewound 4.7uH 20% 1KHz 18Q-Factor Ferrite 1.2A T/R; Manufacturer: BOURNS; Origem: GTZ1050_ED1R1; Case/Package: SMD; Manufacturer Part Number: SDR0302-4R7ML
footprint IND SDR0302
pins: 1, 2

## SDR1005-102KL
designator L?  Valor: 1MH 300MA  (hidden comment: SDR1005-102KL)
IND FIXED 1MH 300MA 3.9 OHM SMD; Manufacturer: Bourns; Origem: GTZ1050_ED1R1; Manufacturer Part Number: SDR1005-102KL; Case/Package: SMD
footprint IND SDR1005
pins: 1, 2

## SF56S006V4BR2000
designator P?, comment Valor: CONN MICROSIM SF56  (hidden comment: CONN MICRO SIM CARD PUSH-PUSH)
Manufacturer: JAE Electronics; Manufacturer Part Number: SF56S006V4BR2000; Origem: NICELO-Ed01R2; Case/Package: SMD
footprint CONN SIMCARD SF56S006V4BR2000-B
pins: C1 C1(VCC), C2 C2(RST), C3 C3(CLK), C5 C5(GND), C6 C6(VPP), C7 C7(DAT), DSW2, HD1, HD2 DSW1/HD2 (GND), HD3, HD4

## ST3232EBTR
designator U?
IC TRANSCEIVER FULL 2/2 16TSSOP; Manufacturer: STMicroelectronics; Origem: GTZ1050_ED1R1; Manufacturer Part Number: ST3232EBTR; Case/Package: TSSOP; Valor: ST3232EBTR
footprint IC TSSOP16
pins: 1 C1+, 2 V+, 3 C1-, 4 C2+, 5 C2-, 6 V-, 7 T2OUT (out), 8 R2IN (in), 9 R2OUT (out), 10 T2IN (in), 11 T1IN (in), 12 R1OUT (out), 13 R1IN (in), 14 T1OUT (out), 15 GND (power), 16 VCC (power)

## STM32F413CGU6
designator U?
MCU 32BIT 1MB FLASH 48UFQFPN; Manufacturer: STMicroelectronics; Origem: GTZ1050_ED1R1; Manufacturer Part Number: STM32F413CGU6; Case/Package: 48UFQFPN; Valor: STM32F413CGU6
footprint IC 48UFQFPN
part A pins: 2 PC13/ANTI_TAMP (io) "EVENTOUT,TAMP_1", 3 PC14-OSC32_IN (io) "EVENTOUT,OSC32_IN", 4 PC15-OSC32_OUT (io) "EVENTOUT,OSC32_OUT", 5 PH0-OSC_IN (io) "EVENTOUT,OSC_IN", 6 PH1-OSC_OUT (io) "EVENTOUT,OSC_OUT", 10 PA0/UART4_TX (io) "TIM2_CH1/TIM2_ETR,  TIM5_CH1, TIM8_ETR,  USART2_CTS,  UART4_TX, EVENTOUT,ADC1_IN0,  WKUP1", 11 PA1/UART4_RX (io) "TIM2_CH2, TIM5_CH2,  SPI4_MOSI/I2S4_SD,  USART2_RTS,  UART4_RX,  QUADSPI_BK1_IO3,  EVENTOUT,ADC1_IN1", 12 PA2 (io) "TIM2_CH3, TIM5_CH3,  TIM9_CH1, I2S2_CKIN,  USART2_TX,  FSMC_D4/FSMC_DA4,  EVENTOUT,ADC1_IN2", 13 PA3 (io) "TIM2_CH4, TIM5_CH4,  TIM9_CH2, I2S2_MCK,  USART2_RX,  SAI1_SD_B,  FSMC_D5/FSMC_DA5,  EVENTOUT,ADC1_IN3", 14 PA4 (io) "SPI1_NSS/I2S1_WS,  SPI3_NSS/I2S3_WS,  USART2_CK,  DFSDM1_DATIN1,  FSMC_D6/FSMC_DA6,  EVENTOUT,ADC1_IN4,  DAC_OUT1", 15 PA5 (io) "TIM2_CH1/TIM2_ETR,  TIM8_CH1N,  SPI1_SCK/I2S1_CK,  DFSDM1_CKIN1,  FSMC_D7/FSMC_DA7,  EVENTOUT,ADC1_IN5,  DAC_OUT2", 16 PA6 (io) "TIM1_BKIN, TIM3_CH1,  TIM8_BKIN,  SPI1_MISO, I2S2_MCK,  DFSDM2_CKIN1,  TIM13_CH1,  QUADSPI_BK2_IO0,  SDIO_CMD,  EVENTOUT,ADC1_IN6", 17 PA7 (io) "TIM1_CH1N,  TIM3_CH2,  TIM8_CH1N,  SPI1_MOSI/I2S1_SD,  DFSDM2_DATIN1,  TIM14_CH1,  QUADSPI_BK2_IO1,  EVENTOUT,ADC1_IN7", 18 PB0 (io) "TIM1_CH2N,  TIM3_CH3,  TIM8_CH2N,  SPI5_SCK/I2S5_CK,  EVENTOUT,ADC1_IN8", 19 PB1 (io) "TIM1_CH3N,  TIM3_CH4,  TIM8_CH3N,  SPI5_NSS/I2S5_WS,  DFSDM1_DATIN0,  QUADSPI_CLK,  EVENTOUT,ADC1_IN9", 20 PB2 (io) "LPTIM1_OUT,  DFSDM1_CKIN0,  QUADSPI_CLK,  EVENTOUT,BOOT1", 21 PB10/I2C2_SCL (io) "TIM2_CH3, I2C2_SCL,  SPI2_SCK/I2S2_CK,  I2S3_MCK,  USART3_TX,  I2CFMP1_SCL,  DFSDM2_CKOUT,  SDIO_D7, EVENTOUT", 25 PB12/UART5_RX (io) "TIM1_BKIN,  I2C2_SMBA,  SPI2_NSS/I2S2_WS,  SPI4_NSS/I2S4_WS,  SPI3_SCK/I2S3_CK,  USART3_CK,  CAN2_RX,  DFSDM1_DATIN1,  UART5_RX,  FSMC_D13/FSMC_DA1  3, EVENTOUT", 26 PB13/UART5_TX (io) "TIM1_CH1N,  I2CFMP1_SMBA,  SPI2_SCK/I2S2_CK,  SPI4_SCK/I2S4_CK,  USART3_CTS,  CAN2_TX,  DFSDM1_CKIN1,  UART5_TX, EVENTOUT", 27 PB14 (io) "TIM1_CH2N,  TIM8_CH2N,  I2CFMP1_SDA,  SPI2_MISO,  I2S2ext_SD,  USART3_RTS,  DFSDM1_DATIN2,  TIM12_CH1,  FSMC_D0/FSMC_DA0,  SDIO_D6, EVENTOUT", 28 PB15 (io) "RTC_REFIN,  TIM1_CH3N,  TIM8_CH3N,  I2CFMP1_SCL,  SPI2_MOSI/I2S2_SD,  DFSDM1_CKIN2,  TIM12_CH2, SDIO_CK,  EVENTOUT", 29 PA8 (io) "MCO_1, TIM1_CH1,  I2C3_SCL,  DFSDM1_CKOUT,  USART1_CK,  UART7_RX,  USB_FS_SOF,  CAN3_RX, SDIO_D1,  EVENTOUT", 30 PA9 (io) "TIM1_CH2,  DFSDM2_CKIN3,  I2C3_SMBA,  SPI2_SCK/I2S2_CK,  USART1_TX,  USB_FS_VBUS,  SDIO_D2, EVENTOUT", 31 PA10 (io) "TIM1_CH3,  DFSDM2_DATIN3,  SPI2_MOSI/I2S2_SD,  SPI5_MOSI/I2S5_SD,  USART1_RX,  USB_FS_ID,  EVENTOUT", 32 PA11 (io) "TIM1_CH4,  DFSDM2_CKIN5,  SPI2_NSS/I2S2_WS,  SPI4_MISO,  USART1_CTS,  USART6_TX,  CAN1_RX,  USB_FS_DM,  UART4_RX,  EVENTOUT", 33 PA12 (io) "TIM1_ETR,  DFSDM2_DATIN5,  SPI2_MISO,  SPI5_MISO,  USART1_RTS,  USART6_RX,  CAN1_TX, USB_FS_DP,  UART4_TX, EVENTOUT", 38 PA15 (io) "JTDI,  TIM2_CH1/TIM2_ETR,  SPI1_NSS/I2S1_WS,  SPI3_NSS/I2S3_WS,  USART1_TX,  UART7_TX,  SAI1_MCLK_A,  CAN3_TX, EVENTOUT", 39 PB3/UART7_RX/I2C2_SDA (io) "JTDO-SWO, TIM2_CH2,  I2CFMP1_SDA,  SPI1_SCK/I2S1_CK,  SPI3_SCK/I2S3_CK,  USART1_RX,  UART7_RX, I2C2_SDA,  SAI1_SD_A, CAN3_RX,  EVENTOUT", 40 PB4/UART7_TX (io) "JTRST, TIM3_CH1,  SPI1_MISO,  SPI3_MISO,  I2S3ext_SD,  UART7_TX, I2C3_SDA,  SAI1_SCK_A,  CAN3_TX, SDIO_D0,  EVENTOUT", 41 PB5/UART5_RX (io) "LPTIM1_IN1,  TIM3_CH2,  I2C1_SMBA,  SPI1_MOSI/I2S1_SD,  SPI3_MOSI/I2S3_SD,  CAN2_RX, SAI1_FS_A,  UART5_RX, SDIO_D3,  EVENTOUT", 42 PB6/UART5_TX/I2C1_SCL (io) "LPTIM1_ETR,  TIM4_CH1, I2C1_SCL,  DFSDM2_CKIN7,  USART1_TX, CAN2_TX,  QUADSPI_BK1_NCS,  UART5_TX, SDIO_D0,  EVENTOUT", 43 PB7/I2C1_SDA (io) "LPTIM1_IN2,  TIM4_CH2, I2C1_SDA,  DFSDM2_DATIN7,  USART1_RX,  FSMC_NL, EVENTOUT", 45 PB8/UART5_RX/I2C1_SCL (io) "LPTIM1_OUT,  TIM4_CH3, TIM10_CH1,  I2C1_SCL,  SPI5_MOSI/I2S5_SD,  DFSDM2_CKIN1,  CAN1_RX, I2C3_SDA,  UART5_RX, SDIO_D4,  EVENTOUT", 46 PB9/UART5_TX/I2C1_SDA (io) "TIM4_CH4, TIM11_CH1,  I2C1_SDA,  SPI2_NSS/I2S2_WS,  DFSDM2_DATIN1,  CAN1_TX, I2C2_SDA,  UART5_TX, SDIO_D5,  EVENTOUT"
part B pins: 1 VBAT (power), 7 NRST (io) "RESET", 8 VSSA (power), 9 VDDA (power), 22 VCAP_1 (power), 23 VSS (power), 24 VDD (power), 34 PA13/SWDIO (io) "JTMS-SWDIO,  EVENTOUT", 35 VSS (power), 36 VDD (power), 37 PA14/SWCLK (io) "JTCK-SWCLK,  EVENTOUT", 44 BOOT0 (in), 47 VSS (power), 48 VDD (power), 49 THERMAL

## STM32L010F4P6
designator U?
MCU STM32L010F4P6 32BITS 32MHz 16KB/2KB 1.8-3.6V; Manufacturer: STMicroelectronics; Origem: NICELO-Ed01R2; Manufacturer Part Number: STM32L010F4P6; Case/Package: 20-TSSOP; Valor: STM32L010F4P6
footprint IC TSSOP20
pins: 1 PB9-BOOT0 (in), 2 PC14-OSC32_IN (io), 3 PC15-OSC32_OUT (io), 4 NRST (in), 5 VDDA (power), 6 PA0-CK_IN (io), 7 PA1 (io), 8 PA2 (io), 9 PA3 (io), 10 PA4 (io), 11 PA5 (io), 12 PA6 (io), 13 PA7 (io), 14 PB1 (io), 15 VSS (power), 16 VDD (power), 17 PA9 (io), 18 PA10 (io), 19 PA13/SWDIO (io), 20 PA14/SWCLK (io)

## STM32L010RBT6
designator U?
MCU STM32L010RBT6 32BITS 32MHZ 128KB/20KB 1.8-3.6V; Manufacturer: STMicroelectronics; Origem: NICELO-Ed01R2; Manufacturer Part Number: STM32L010RBT6; Case/Package: 64-LQFP; Valor: STM32L010RBT6
footprint IC LQFP64
part A pins: 2 PC13, 3 PC14 - OSC32_IN, 4 PC15 - OSC32_OUT, 8 PC0, 9 PC1, 10 PC2, 11 PC3, 14 PA0, 15 PA1, 16 PA2, 17 PA3, 20 PA4, 21 PA5, 22 PA6, 23 PA7, 24 PC4, 25 PC5, 26 PB0, 27 PB1, 28 PB2, 29 PB10, 30 PB11, 33 PB12, 34 PPB13, 35 PB14, 36 PB15, 37 PC6, 38 PC7, 39 PC8, 40 PC9, 41 PA8, 42 PA9, 43 PA10, 44 PA11, 45 PA12, 46 PA13, 49 PA14, 50 PA15, 51 PC10, 52 PC11, 53 PC12, 55 PB3, 56 PB4, 57 PB5, 58 PB6, 59 PB7, 61 PB8, 62 PB9
part B pins: 1 VDD, 5 PH0 - OSC_IN, 6 PH1 - OSC_OUT, 7 NRST, 12 VSSA, 13 VDDA, 18 VSS, 19 VDD, 31 VSS, 32 VDD, 47 VSS, 48 VDDIO2, 54 PD2, 60 BOOT0, 63 VSS, 64 VDD

## STSAFE-A100
designator U?
IC SAFETY MODULE STSAFE-A100; Manufacturer: STMicroelectronics; Origem: NICELO-Ed01R2; Manufacturer Part Number: STSAFE-A100; Case/Package: UFDFPN8; Valor: STSAFE-A100
footprint IC UFDFPN8
pins: 1 NC, 2 VCC, 3 NC, 4 GND, 5 SDA, 6 NC, 7 SCL, 8 ~{RESET}, 9 NC

## STTH1L06
designator D?  Valor: 600V 1A
DIO GEN PURP 600V 1A DO41; Manufacturer: ST; Origem: GTZ1050_ED1R1; Manufacturer Part Number: STTH1L06; Case/Package: DO214-AC (SMA)
footprint DIO DO214-AC SMA
pins: 1 A, 2 K

## TAJC107K010RNJ
designator C?, comment Valor: 100uF 10V  (hidden comment: CAP SMD TANT 100uF 10V 10% 2312)
Manufacturer: Kyocera AVX; Manufacturer Part Number: TAJC107K010RNJ; Origem: NICELO-Ed01R2; Case/Package: 2312
footprint CAP 2312
pins: 1, 2

## TAJC227K006RNJ
designator C?  Voltage: 6.3V  VALOR: 220uF  (hidden comment: TAJC227K006RNJ)
CAP SMD TANT 220UF 6.3V 10% 2312; Manufacturer: Kyocera AVX; ORIGEM: NIC_eLTE_HUAWEI_ED01r02; Manufacturer Part Number: TAJC227K006RNJ; Case/Package: 2312; Capacitance: 220uF
footprint CAP 2312
pins: 1, 2

## TEST_POINT
designator TP?  (value not drawn)
Manufacturer: V2COM; Origem: GTZ1050_ED1R1; Case/Package: SMD; Manufacturer Part Number: TEST_POINT
footprint TESTPOINT D1.3mm
pins: 1

## TLV75533PDBVR
designator U?, comment Valor: TLV75533  (hidden comment: IC REG LDO 3V3 0.5A SOT-23-5)
Manufacturer: Texas Instruments; Manufacturer Part Number: TLV75533PDBVR; Origem: NICELO-Ed01R2; Case/Package: SOT23-5
footprint IC SOT-23-5
pins: 1 VIN (power), 2 VSS (power), 3 ON/OFF (in), 4 NC, 5 VOUT (power)

## TMP102AIDRLT
designator U?
IC TEMP SENSOR TMP102AIDRLT -40-125C SMD; Manufacturer: Texas Instruments; Origem: NICELO-Ed01R2; Manufacturer Part Number: TMP102AIDRLT; Case/Package: SOT-563; Valor: TMP102AIDRLT
footprint IC SOT-563
pins: 1 SCL (in) "Serial clock. Open-drain output; requires a pullup resistor.", 2 GND (power) "Ground", 3 ALERT (oc) "Overtemperature alert. Open-drain output; requires a pullup resistor.", 4 ADD0 (in) "Address select. Connect to GND or V+", 5 V+ (power) "Supply voltage, 1.4 V to 3.6 V", 6 SDA (io) "Serial data. Open-drain output; requires a pullup resistor."

## TPC817S1CRAG
designator U?
OPTOISO 5KV TRANS 4SOP; Manufacturer: Taiwan Semiconductor; Origem: GTZ1050_ED1R1; Manufacturer Part Number: TPC817S1CRAG; Case/Package: 4SOP; Valor: TPC817S1CRAG
footprint IC 4SOP
pins: 1, 2, 3, 4

## TPS22953DQCR
designator U?, comment Valor: TPS22953  (hidden comment: IC LOAD SWITCH 5.7V 5A 10-WSON)
Manufacturer: Texas Instruments; Manufacturer Part Number: TPS22953DQCR; Origem: NICELO-Ed01R2; Case/Package: 10-WSON
footprint IC 10-WSON
pins: 1 VIN1, 2 VIN2, 3 VBIAS, 4 EN, 5 GND, 6 CT, 7 PG, 8 SNS, 9 OUT1, 10 OUT2, 11 GND

## TS432AILT
designator U?  Valor: 1.24-10V 0.5%  (hidden comment: TS432AILT)
IC VREF SHUNT ADJ SOT23-3; Manufacturer: STMicroelectronics; Origem: GTZ1050_ED1R1; Manufacturer Part Number: TS432AILT; Case/Package: SOT-23-3
footprint IC SOT23-3
pins: 1 REF (power), 2 K, 3 A

## URS1H471MHD1TN
designator C?  Valor: 470uF 50V  (hidden comment: URS1H471MHD1TN)
CAP ALUM ELE 470UF 20% 50V RADIAL; Manufacturer: Nichicon; Origem: GTZ1050_ED1R1; Manufacturer Part Number: URS1H471MHD1TN; Case/Package: Radial
footprint CAP POL 16Dx7.5x16.5mm
pins: 1, 2

## VIPER06HSTR
designator U?
IC AC/DC Converters VIPer 800V Plus Fixed Freq 115kHz; Manufacturer: ST; Origem: GTZ1050_ED1R1; Manufacturer Part Number: VIPER06HSTR; Case/Package: SOP; Valor: VIPER06HSTR
footprint IC SSO10
pins: 1 GND (power), 2 VDD (power), 3 LIM, 4 FB (in), 5 COMP (out), 6 DRAIN (power), 7 DRAIN (power), 8 DRAIN (power), 9 DRAIN (power), 10 DRAIN (power)